# Altium schematic symbol library Archim_0.4.SCHLIB: 90 symbols
Pins are listed as number, name and electrical type; pins without a type are passive.

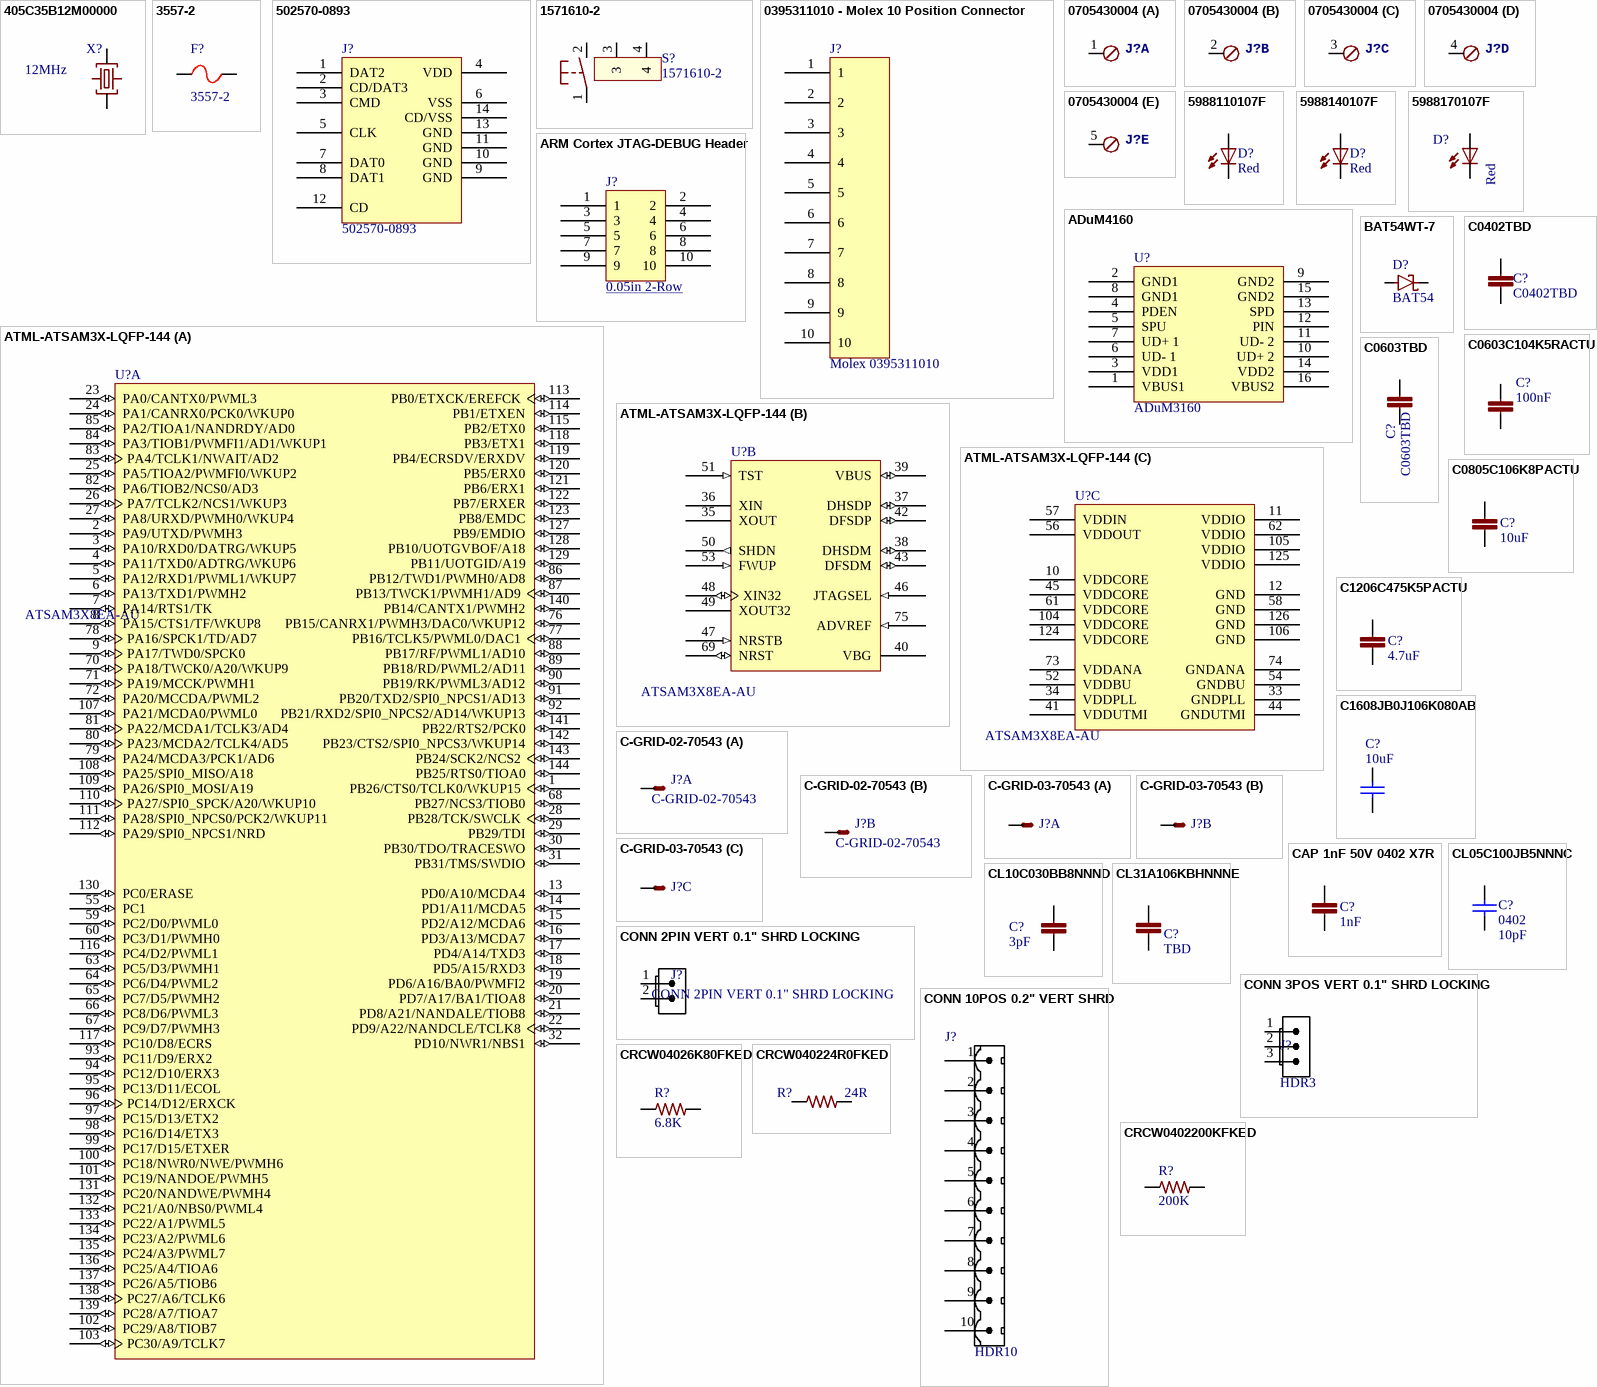
[diagram p0: symbols 405C35B12M00000 to CRCW0402200KFKED]

## 405C35B12M00000
designator X?, comment 12MHz
Crystal 12MHz ±30ppm (Tol) ±50ppm (Stability) 13pF FUND 50Ohm; MANUFACTURER: CTS; MANUFACTURER #: 405C35B12M00000; PART: 12MHz XTAL; PART DESCRIPTION: 12MHz ±30ppm Crystal 13pF 60 Ohm -20°C ~ 70°C Surface Mount 4-SMD, No Lead (DFN, LCC); TOLERANCE: +/- 30ppm; EE_SPEC: -NA-; DISTRIBUTOR #: CTX639TR-ND; DISTRIBUTOR: Digikey; VALUE: 12MHz
footprint CRYS320500
pins: 1 C1, 2 GND, 3 C2, 4 GND

## 3557-2
designator F?
FUSE PTH ATO; MANUFACTURER: Keystone; PART: Fuse Holder; PART DESCRIPTION: Fuse Block 30A 500V 1 Circuit Blade PCB; TOLERANCE: -NA-; VALUE: -NA-; EE_SPEC: 500V; MANUFACTURER #: 3557-2; DISTRIBUTOR #: 36-3557-2-ND; DISTRIBUTOR: Digikey
footprint 3557
pins: 1, 2

## 502570-0893
designator J?
microSD 502570-0893 Molex Part; MANUFACTURER #: 5025700893; PART: CONN Micro SD; PART DESCRIPTION: 10 (8 + 2) Position Card Connector Secure Digital - microSD™ Surface Mount, Right Angle Gold; TOLERANCE: -NA-; VALUE: SD Conn; MANUFACTURER: Molex; DISTRIBUTOR #: WM19093TR-ND; DISTRIBUTOR: Digikey; EE_SPEC: -NA-
footprint 502570-0893 - Molex SD (Molex SD Card Footprint 502570-0893)
pins: 1 DAT2, 2 CD/DAT3, 3 CMD, 4 VDD, 5 CLK, 6 VSS, 7 DAT0, 8 DAT1, 9 GND, 10 GND, 11 GND, 12 CD, 13 GND, 14 CD/VSS (power)

## 1571610-2
designator S?
SWTCH Momentary Washable; MANUFACTURER: TE; PART: Tactile Pushbutton; PART DESCRIPTION: Tactile Switches R/A SEALED TACT SWITCH; TOLERANCE: -NA-; VALUE: -NA-; EE_SPEC: 24V; MANUFACTURER #: 1571610-2; DISTRIBUTOR #: 506-1571610-2; DISTRIBUTOR: Mouser
footprint B3F-31XX
pins: 1 P, 2 S, 3 (power), 4 (power)

## 0395311010 - Molex 10 Position Connector
designator J?, comment Molex 0395311010
MSBTV10 10 port connector same as RAMBo; PART: CONN TERM BLOCK HDR 10POS VERT 5.08MM; PART DESCRIPTION: 10 Position Terminal Block Header, Male Pins, Shrouded (4 Side) 0.200" (5.08mm) Vertical Through Hole; TOLERANCE: -NA-; VALUE: HDR10; MANUFACTURER #: 0395311010; MANUFACTURER: Molex; DISTRIBUTOR #: WM7843-ND; DISTRIBUTOR: Digikey; EE_SPEC: -NA-
footprint MSTBV10
pins: 1, 2, 3, 4, 5, 6, 7, 8, 9, 10

## 0705430004
designator J?  (value not drawn)
5pos Latching 2.54mm; MANUFACTURER: Molex; PART: 5 Pin Conn; PART DESCRIPTION: 5 Positions Header, Shrouded Connector 0.100" (2.54mm) Through Hole Gold; TOLERANCE: -NA-; VALUE: HDR5; MANUFACTURER #: 0705430004; DISTRIBUTOR #: WM4803-ND; DISTRIBUTOR: Digikey; EE_SPEC: -NA-
footprint 5POL254
part A pins: 1
part B pins: 2 1
part C pins: 3 1
part D pins: 4 1
part E pins: 5 1

## 5988110107F
designator D?, comment Red
LED 0805 Red; MANUFACTURER: Dialight; MANUFACTURER #: 5988110107F; PART: LED Red 0805; PART DESCRIPTION: Red 635nm LED Indication - Discrete 2.2V 0805 (2012 Metric); TOLERANCE: -NA-; EE_SPEC: Vf=2.2V; VALUE: Red; DISTRIBUTOR #: 350-2038-2-ND; DISTRIBUTOR: Digikey
footprint LED2012120
pins: A, C

## 5988140107F
designator D?, comment Red
LED 0805 Yellow; MANUFACTURER: Dialight; MANUFACTURER #: 5988110107F; PART: LED Red 0805; PART DESCRIPTION: Red 635nm LED Indication - Discrete 2.2V 0805 (2012 Metric); TOLERANCE: -NA-; EE_SPEC: Vf=2.2V; VALUE: Red; DISTRIBUTOR #: 350-2038-2-ND; DISTRIBUTOR: Digikey
footprint LED2012120
pins: A, C

## 5988170107F
designator D?, comment Red
LED 0805 Green; MANUFACTURER: Dialight; MANUFACTURER #: 5988110107F; PART: LED Red 0805; PART DESCRIPTION: Red 635nm LED Indication - Discrete 2.2V 0805 (2012 Metric); TOLERANCE: -NA-; EE_SPEC: Vf=2.2V; VALUE: Red; DISTRIBUTOR #: 350-2038-2-ND; DISTRIBUTOR: Digikey
footprint LED2012120
pins: A, C

## ADuM4160
designator U?, comment ADuM3160
USB Opto Isolator; MANUFACTURER #: ADUM3160BRWZ-RL; MANUFACTURER: Analog Devices; PART: IC DGTL ISO 2.5KV 2CH USB 16SOIC; PART DESCRIPTION: USB Digital Isolator 2500Vrms 2 Channel 12Mbps 25kV/µs CMTI 16-SOIC (0.295", 7.50mm Width); TOLERANCE: -NA-; VALUE: USB ISO; EE_SPEC: 2500V ISO; DISTRIBUTOR #: ADUM3160BRWZ-RLTR-ND; DISTRIBUTOR: Digikey
footprint ADuM4160 (SOIC, 16-Leads, Body 10.30x7.50mm, Pitch 1.27mm, IPC Medium Density)
pins: 1 VBUS1, 2 GND1, 3 VDD1, 4 PDEN, 5 SPU, 6 UD- 1, 7 UD+ 1, 8 GND1, 9 GND2, 10 UD+ 2, 11 UD- 2, 12 PIN, 13 SPD, 14 VDD2, 15 GND2, 16 VBUS2

## ARM Cortex JTAG-DEBUG Header
designator J?, comment 0.05in 2-Row
20021121-00010C4LF; MANUFACTURER: Amphenol FCI; PART: 10 Pin Conn 2Row SMT; PART DESCRIPTION: 10 Positions Header, Unshrouded Connector 0.050" (1.27mm) Surface Mount Gold; TOLERANCE: -NA-; VALUE: HDR10; MANUFACTURER #: 20021121-00010C4LF; DISTRIBUTOR #: 609-3695-2-ND; DISTRIBUTOR: Digikey; EE_SPEC: -NA-
footprint FTSH-105-XX-X-DV (1.27mm pitch, 10 pin, terminal strip; vertical, SMT)
pins: 1, 2, 3, 4, 5, 6, 7, 8, 9, 10

## ATML-ATSAM3X-LQFP-144
designator U?, comment ATSAM3X8EA-AU
Atmel; PART: IC MCU 32BIT 512KB FLASH 144LQFP; PART DESCRIPTION: ARM® Cortex®-M3 SAM3X Microcontroller IC 32-Bit 84MHz 512KB (512K x 8) FLASH 144-LQFP (20x20); TOLERANCE: -NA-; VALUE: -NA-; EE_SPEC: 3.3V; MANUFACTURER #: ATSAM3X8EA-AU; MANUFACTURER: Atmel; DISTRIBUTOR #: ATSAM3X8EA-AU-ND; DISTRIBUTOR: Digikey
footprint LQFP144_N (Thin QFP, 144-Leads, Body 20x20mm, Pitch 0.5mm, IPC Medium Density)
part A pins: 1 PB26/CTS0/TCLK0/WKUP15 (io), 2 PA9/UTXD/PWMH3 (io), 3 PA10/RXD0/DATRG/WKUP5 (io), 4 PA11/TXD0/ADTRG/WKUP6 (io), 5 PA12/RXD1/PWML1/WKUP7 (io), 6 PA13/TXD1/PWMH2 (io), 7 PA14/RTS1/TK (io), 8 PA15/CTS1/TF/WKUP8 (io), 9 PA17/TWD0/SPCK0 (io), 13 PD0/A10/MCDA4 (io), 14 PD1/A11/MCDA5 (io), 15 PD2/A12/MCDA6 (io), 16 PD3/A13/MCDA7 (io), 17 PD4/A14/TXD3 (io), 18 PD5/A15/RXD3 (io), 19 PD6/A16/BA0/PWMFI2 (io), 20 PD7/A17/BA1/TIOA8 (io), 21 PD8/A21/NANDALE/TIOB8 (io), 22 PD9/A22/NANDCLE/TCLK8 (io), 23 PA0/CANTX0/PWML3 (io), 24 PA1/CANRX0/PCK0/WKUP0 (io), 25 PA5/TIOA2/PWMFI0/WKUP2 (io), 26 PA7/TCLK2/NCS1/WKUP3 (io), 27 PA8/URXD/PWMH0/WKUP4 (io), 28 PB28/TCK/SWCLK (io), 29 PB29/TDI (io), 30 PB30/TDO/TRACESWO (io), 31 PB31/TMS/SWDIO (io), 32 PD10/NWR1/NBS1 (io), 55 PC1 (io), 59 PC2/D0/PWML0 (io), 60 PC3/D1/PWMH0 (io), 63 PC5/D3/PWMH1 (io), 64 PC6/D4/PWML2 (io), 65 PC7/D5/PWMH2 (io), 66 PC8/D6/PWML3 (io), 67 PC9/D7/PWMH3 (io), 68 PB27/NCS3/TIOB0 (io), 70 PA18/TWCK0/A20/WKUP9 (io), 71 PA19/MCCK/PWMH1 (io), 72 PA20/MCCDA/PWML2 (io), 76 PB15/CANRX1/PWMH3/DAC0/WKUP12 (io), 77 PB16/TCLK5/PWML0/DAC1 (io), 78 PA16/SPCK1/TD/AD7 (io), 79 PA24/MCDA3/PCK1/AD6 (io), 80 PA23/MCDA2/TCLK4/AD5 (io), 81 PA22/MCDA1/TCLK3/AD4 (io), 82 PA6/TIOB2/NCS0/AD3 (io), 83 PA4/TCLK1/NWAIT/AD2 (io), 84 PA3/TIOB1/PWMFI1/AD1/WKUP1 (io), 85 PA2/TIOA1/NANDRDY/AD0 (io), 86 PB12/TWD1/PWMH0/AD8 (io), 87 PB13/TWCK1/PWMH1/AD9 (io), 88 PB17/RF/PWML1/AD10 (io), 89 PB18/RD/PWML2/AD11 (io), 90 PB19/RK/PWML3/AD12 (io), 91 PB20/TXD2/SPI0_NPCS1/AD13 (io), 92 PB21/RXD2/SPI0_NPCS2/AD14/WKUP13 (io), 93 PC11/D9/ERX2 (io), 94 PC12/D10/ERX3 (io), 95 PC13/D11/ECOL (io), 96 PC14/D12/ERXCK (io), 97 PC15/D13/ETX2 (io), 98 PC16/D14/ETX3 (io), 99 PC17/D15/ETXER (io), 100 PC18/NWR0/NWE/PWMH6 (io), 101 PC19/NANDOE/PWMH5 (io), 102 PC29/A8/TIOB7 (io), 103 PC30/A9/TCLK7 (io), 107 PA21/MCDA0/PWML0 (io), 108 PA25/SPI0_MISO/A18 (io), 109 PA26/SPI0_MOSI/A19 (io), 110 PA27/SPI0_SPCK/A20/WKUP10 (io), 111 PA28/SPI0_NPCS0/PCK2/WKUP11 (io), 112 PA29/SPI0_NPCS1/NRD (io), 113 PB0/ETXCK/EREFCK (io), 114 PB1/ETXEN (io), 115 PB2/ETX0 (io), 116 PC4/D2/PWML1 (io), 117 PC10/D8/ECRS (io), 118 PB3/ETX1 (io), 119 PB4/ECRSDV/ERXDV (io), 120 PB5/ERX0 (io), 121 PB6/ERX1 (io), 122 PB7/ERXER (io), 123 PB8/EMDC (io), 127 PB9/EMDIO (io), 128 PB10/UOTGVBOF/A18 (io), 129 PB11/UOTGID/A19 (io), 130 PC0/ERASE (io), 131 PC20/NANDWE/PWMH4 (io), 132 PC21/A0/NBS0/PWML4 (io), 133 PC22/A1/PWML5 (io), 134 PC23/A2/PWML6 (io), 135 PC24/A3/PWML7 (io), 136 PC25/A4/TIOA6 (io), 137 PC26/A5/TIOB6 (io), 138 PC27/A6/TCLK6 (io), 139 PC28/A7/TIOA7 (io), 140 PB14/CANTX1/PWMH2 (io), 141 PB22/RTS2/PCK0 (io), 142 PB23/CTS2/SPI0_NPCS3/WKUP14 (io), 143 PB24/SCK2/NCS2 (io), 144 PB25/RTS0/TIOA0 (io)
part B pins: 35 XOUT "Main Oscillator Output", 36 XIN "Main Oscillator Input", 37 DHSDP (io) "USB High Speed Data +", 38 DHSDM (io) "USB High Speed Data -", 39 VBUS (io) "USB Bus Power Measurement Mini Host/Device", 40 VBG "Bias Voltage Reference", 42 DFSDP (io) "USB Full Speed Data +", 43 DFSDM (io) "USB Full Speed Data -", 46 JTAGSEL (in) "JTAG Selection", 47 NRSTB (in) "Asynchronous Microcontroller Reset", 48 XIN32 (io) "Slow Clock Oscillator Input", 49 XOUT32 "Slow Clock Oscillator Output", 50 SHDN (out) "Shut-Down Control", 51 TST (in) "Test Mode Select", 53 FWUP (in) "Force Wake-up Input", 69 NRST (io) "Microcontroller Reset", 75 ADVREF (in) "ADC and DAC Reference"
part C pins: 10 VDDCORE (power) "Core Chip Power Supply", 11 VDDIO (power) "Peripherals I/O Lines Power Supply", 12 GND (power) "Ground", 33 GNDPLL (power) "PLL A, UPLL and Oscillator Ground", 34 VDDPLL (power) "PLL A, UPLL and Oscillator Power Supply", 41 VDDUTMI (power) "USB UTMI+ Interface Power Supply", 44 GNDUTMI (power) "USB UTMI+ Interface Ground", 45 VDDCORE (power) "Core Chip Power Supply", 52 VDDBU (power) "Backup I/O Lines Power Supply", 54 GNDBU (power) "Backup Ground", 56 VDDOUT (power) "Voltage Regulator Output", 57 VDDIN (power) "Voltage Regulator, ADC and DAC Power", 58 GND (power) "Ground", 61 VDDCORE (power) "Core Chip Power Supply", 62 VDDIO (power) "Peripherals I/O Lines Power Supply", 73 VDDANA (power) "ADC and DAC Analog Power Supply", 74 GNDANA (power) "ADC and DAC Analog Ground", 104 VDDCORE (power) "Core Chip Power Supply", 105 VDDIO (power) "Peripherals I/O Lines Power Supply", 106 GND (power) "Ground", 124 VDDCORE (power) "Core Chip Power Supply", 125 VDDIO (power) "Peripherals I/O Lines Power Supply", 126 GND (power) "Ground"

## BAT54WT-7
designator D?, comment BAT54
Diode Schottky 30V 100mA Surface Mount SOD-523; MANUFACTURER: Diodes Incorporated; MANUFACTURER #: BAT54WT-7; PART: Schottky Diode; TOLERANCE: -NA-; VALUE: BAT54; DISTRIBUTOR #: BAT54WT-7DI-ND; DISTRIBUTOR: Digikey; PART DESCRIPTION: Diode Schottky 30V 100mA Surface Mount SOD-523; EE_SPEC: 30V 100mA
footprint SOD523_
pins: A, K

## C0402TBD
designator C?
Capacitor Non Polarized; MANUFACTURER #: DNI-C0402TBD; VALUE: C0402TBD; DNI: DNI
footprint C0402
signal-integrity model Model Name (Model Description)
simulation model Model Name (Model Description)
pins: 1, 2

## C0603C104K5RACTU
designator C?, comment 100nF
CAP CER 0603 100nF 50V 10% X7R; MANUFACTURER: Kemet; MANUFACTURER #: C0603C104K5RACTU; PART: 100nF 50V X7R 0603; PART DESCRIPTION: 0.10µF ±10% 50V Ceramic Capacitor X7R 0603 (1608 Metric); VALUE: 100nF; DISTRIBUTOR #: 399-5089-2-ND; DISTRIBUTOR: Digikey; TOLERANCE: 10%; EE_SPEC: 50V
footprint C0603
signal-integrity model Model Name (Model Description)
simulation model Model Name (Model Description)
pins: 1, 2

## C0603TBD
designator C?
Capacitor Non Polarized; MANUFACTURER #: DNI-C0603TBD; VALUE: C0603TBD; DNI: DNI
footprint C0603
signal-integrity model Model Name (Model Description)
simulation model Model Name (Model Description)
pins: 1, 2

## C0805C106K8PACTU
designator C?, comment 10uF
CAP CER 0805 10uF 10V 10% X5R; MANUFACTURER: Kemet; MANUFACTURER #: C0805C106K8PACTU; PART: 10uF 10V X5R 0805; PART DESCRIPTION: 10µF ±10% 10V Ceramic Capacitor X5R 0805 (2012 Metric); VALUE: 10uF; DISTRIBUTOR #: 399-4925-2-ND; DISTRIBUTOR: Digikey; TOLERANCE: 10%; EE_SPEC: 10V
footprint C0805
signal-integrity model Model Name (Model Description)
simulation model Model Name (Model Description)
pins: 1, 2

## C1206C475K5PACTU
designator C?, comment 4.7uF
CAP CER 1206 4.7uF 50V 10% X5R; MANUFACTURER: Kemet; MANUFACTURER #: C1206C475K5PACTU; PART: 4.7uF 50V X5R 1206; PART DESCRIPTION: 4.7µF ±10% 50V Ceramic Capacitor X5R 1206 (3216 Metric); VALUE: 4.7uF; DISTRIBUTOR #: 399-5507-2-ND; DISTRIBUTOR: Digikey; TOLERANCE: 10%; EE_SPEC: 50V
signal-integrity model Model Name (Model Description)
simulation model Model Name (Model Description)
footprint C1206
pins: 1, 2

## C1608JB0J106K080AB
designator C?, comment value 10uF  (hidden comment: 0603)
CAP CER 10UF 6.3V 10% JB 0603; MANUFACTURER #: C1608JB0J106K080AB; MANUFACTURER: TDK; PART: 10µF ±10% 6.3V Ceramic Capacitor JB 0603 (1608 Metric); EE_SPEC: 6.3VDC; PART DESCRIPTION: CAP CER 10UF 6.3V 10% JB 0603; TOLERANCE: 10%; DISTRIBUTOR #: 445-11185-1-ND; DISTRIBUTOR: Digikey
simulation model CAP (Semiconductor Capacitor)
signal-integrity model Cap Semi
footprint C0603
pins: 1, 2

## C-GRID-02-70543
designator J?
Connector 2pos; MANUFACTURER: Molex; MANUFACTURER #: 0705430001; PART: 10 Pin Conn; PART DESCRIPTION: 2 Positions Header, Shrouded Connector 0.100" (2.54mm) Through Hole Gold; TOLERANCE: -NA-; VALUE: HDR2; DISTRIBUTOR #: WM4800-ND; DISTRIBUTOR: Digikey; EE_SPEC: -NA-
footprint 70543-02
part A pins: 1 S
part B pins: 2 S

## C-GRID-03-70543
designator J?, comment Molex 70543-03  (value not drawn)
Connector 2pos 2.54mm locking; MANUFACTURER #: 0705430002; PART: 3 Pin Conn VERT; PART DESCRIPTION: 3 Positions Header, Shrouded Connector 0.100" (2.54mm) Through Hole Gold; TOLERANCE: -NA-; VALUE: HDR3; MANUFACTURER: Molex; DISTRIBUTOR #: WM4801-ND; DISTRIBUTOR: Digikey; EE_SPEC: -NA-
footprint 70543-03
part A pins: 1 S
part B pins: 2 S
part C pins: 3 S

## CAP 1nF 50V 0402 X7R
designator C?, comment 1nF
1000pF 50V Ceramic Capacitor X7R 0402 (1005 Metric) 0.039" L x 0.020" W (1.00mm x 0.50mm); MANUFACTURER: Murata; MANUFACTURER #: GRM155R71H102KA01D; PART: 1nF 50V X7R 0402; PART DESCRIPTION: 1000pF ±10% 50V Ceramic Capacitor X7R 0402 (1005 Metric); TOLERANCE: 10%; VALUE: 1nF; DISTRIBUTOR #: 490-1303-2-ND; DISTRIBUTOR: Digikey; EE_SPEC: 50V
footprint C0402
pins: 1, 2

## CL05C100JB5NNNC
designator C?, comment 0402  value 10pF
CAP CER 10PF 50V 5% NP0 0402; PART DESCRIPTION: 10pF ±5% 50V Ceramic Capacitor C0G, NP0 0402 (1005 Metric); MANUFACTURER #: CL05C100JB5NNNC; MANUFACTURER: Samsung; PART: 10pF 50V NP0 0402; TOLERANCE: 5%; EE_SPEC: 50V; DISTRIBUTOR #: 1276-1139-2-ND; DISTRIBUTOR: Digikey
simulation model CAP (Semiconductor Capacitor)
signal-integrity model Cap Semi
footprint C0402
pins: 1, 2

## CL10C030BB8NNND
designator C?, comment 3pF
CAP CER 3PF 50V NP0 0603; MANUFACTURER: Samsung; MANUFACTURER #: CL10C030BB8NNND; PART DESCRIPTION: 3pF ±0.1pF 50V Ceramic Capacitor C0G, NP0 0603 (1608 Metric); TOLERANCE: +/- 0.1pF; VALUE: 3pF; DISTRIBUTOR #: CL10C030BB8NNND-ND; DISTRIBUTOR: Digikey; PART: 3pF 50V NP0 0603; EE_SPEC: 50V
footprint C0603
signal-integrity model Model Name (Model Description)
simulation model Model Name (Model Description)
pins: 1, 2

## CL31A106KBHNNNE
designator C?, comment TBD
CAP CER 10UF 50V 10% X5R 1206; MANUFACTURER: Samsung; MANUFACTURER #: CL31A106KBHNNNE; PART: 10uF 50V X5R 1206; PART DESCRIPTION: 10µF ±10% 50V Ceramic Capacitor X5R 1206 (3216 Metric); VALUE: TBD; DISTRIBUTOR #: 1276-2876-2-ND; DISTRIBUTOR: Digikey; TOLERANCE: 10%; EE_SPEC: 50V; DNI: DNI
signal-integrity model Model Name (Model Description)
simulation model Model Name (Model Description)
footprint C1206
pins: 1, 2

## CONN 2PIN VERT 0.1" SHRD LOCKING
designator J?
Connector 2pos; MANUFACTURER: Molex; MANUFACTURER #: 0705430001; PART: 10 Pin Conn; PART DESCRIPTION: 2 Positions Header, Shrouded Connector 0.100" (2.54mm) Through Hole Gold; TOLERANCE: -NA-; VALUE: HDR2; DISTRIBUTOR #: WM4800-ND; DISTRIBUTOR: Digikey; EE_SPEC: -NA-
footprint 70543-02
pins: 1 S, 2 S

## CONN 3POS VERT 0.1" SHRD LOCKING
designator J?, comment value HDR3  (hidden comment: Molex 70543-03)
3 Positions Header, Shrouded Connector 0.100" (2.54mm) Through Hole Gold; MANUFACTURER #: 0705430002; PART: 3 Pin Conn VERT; TOLERANCE: -NA-; MANUFACTURER: Molex; DISTRIBUTOR #: WM4801-ND; DISTRIBUTOR: Digikey; PART DESCRIPTION: 3 Positions Header, Shrouded Connector 0.100" (2.54mm) Through Hole Gold; EE_SPEC: -NA-
footprint 70543-03
pins: 1 S, 2 S, 3 S

## CONN 10POS 0.2" VERT SHRD
designator J?, comment value HDR10  (hidden comment: Molex 0395311010)
MSBTV10 10 port connector same as RAMBo; PART: CONN TERM BLOCK HDR 10POS VERT 5.08MM; PART DESCRIPTION: 10 Position Terminal Block Header, Male Pins, Shrouded (4 Side) 0.200" (5.08mm) Vertical Through Hole; TOLERANCE: -NA-; MANUFACTURER #: 0395311010; MANUFACTURER: Molex; DISTRIBUTOR #: WM7843-ND; DISTRIBUTOR: Digikey; EE_SPEC: -NA-
footprint MSTBV10
pins: 1, 2, 3, 4, 5, 6, 7, 8, 9, 10

## CRCW04026K80FKED
designator R?, comment 6.8K
RES SMD 6.8K OHM 1% 1/16W 0402; MANUFACTURER: Vishay Dale; MANUFACTURER #: CRCW04026K80FKED; PART: 6.8k 1% 0402; PART DESCRIPTION: 6.8k Ohm ±1% 0.063W, 1/16W Chip Resistor 0402 (1005 Metric) Automotive AEC-Q200 Thick Film; VALUE: 6.8K; DISTRIBUTOR #: 541-6.80KLTR-ND; DISTRIBUTOR: Digikey; TOLERANCE: 1%; EE_SPEC: 1/16W
footprint R0402
signal-integrity model Model Name (Model Description)
simulation model Model Name (Model Description)
pins: 1, 2

## CRCW040224R0FKED
designator R?, comment 24R
Res Thick Film 0402 24 Ohm 1% 0.063W; MANUFACTURER: Yageo; MANUFACTURER #: RC0402FR-0724RL; PART: 24R 1% 0402; PART DESCRIPTION: 24 Ohm ±1% 0.063W, 1/16W Chip Resistor 0402 (1005 Metric) Moisture Resistant Thick Film; EE_SPEC: 1/16W; VALUE: 24R; DISTRIBUTOR #: YAG3073TR-ND; DISTRIBUTOR: Digikey; TOLERANCE: 1%
footprint R0402
signal-integrity model Model Name (Model Description)
simulation model Model Name (Model Description)
pins: 1, 2

## CRCW0402200KFKED
designator R?, comment 200K
RES 0402 200k 63mW 1%; MANUFACTURER: Vishay Dale; MANUFACTURER #: CRCW0402200KFKED; PART: 200k 1% 0402; PART DESCRIPTION: 200k Ohm ±1% 0.063W, 1/16W Chip Resistor 0402 (1005 Metric) Automotive AEC-Q200 Thick Film; EE_SPEC: 1/16W; VALUE: 200K; DISTRIBUTOR #: 541-200KLTR-ND; DISTRIBUTOR: Digikey; TOLERANCE: 1%
footprint R0402
signal-integrity model Model Name (Model Description)
simulation model Model Name (Model Description)
pins: 1, 2

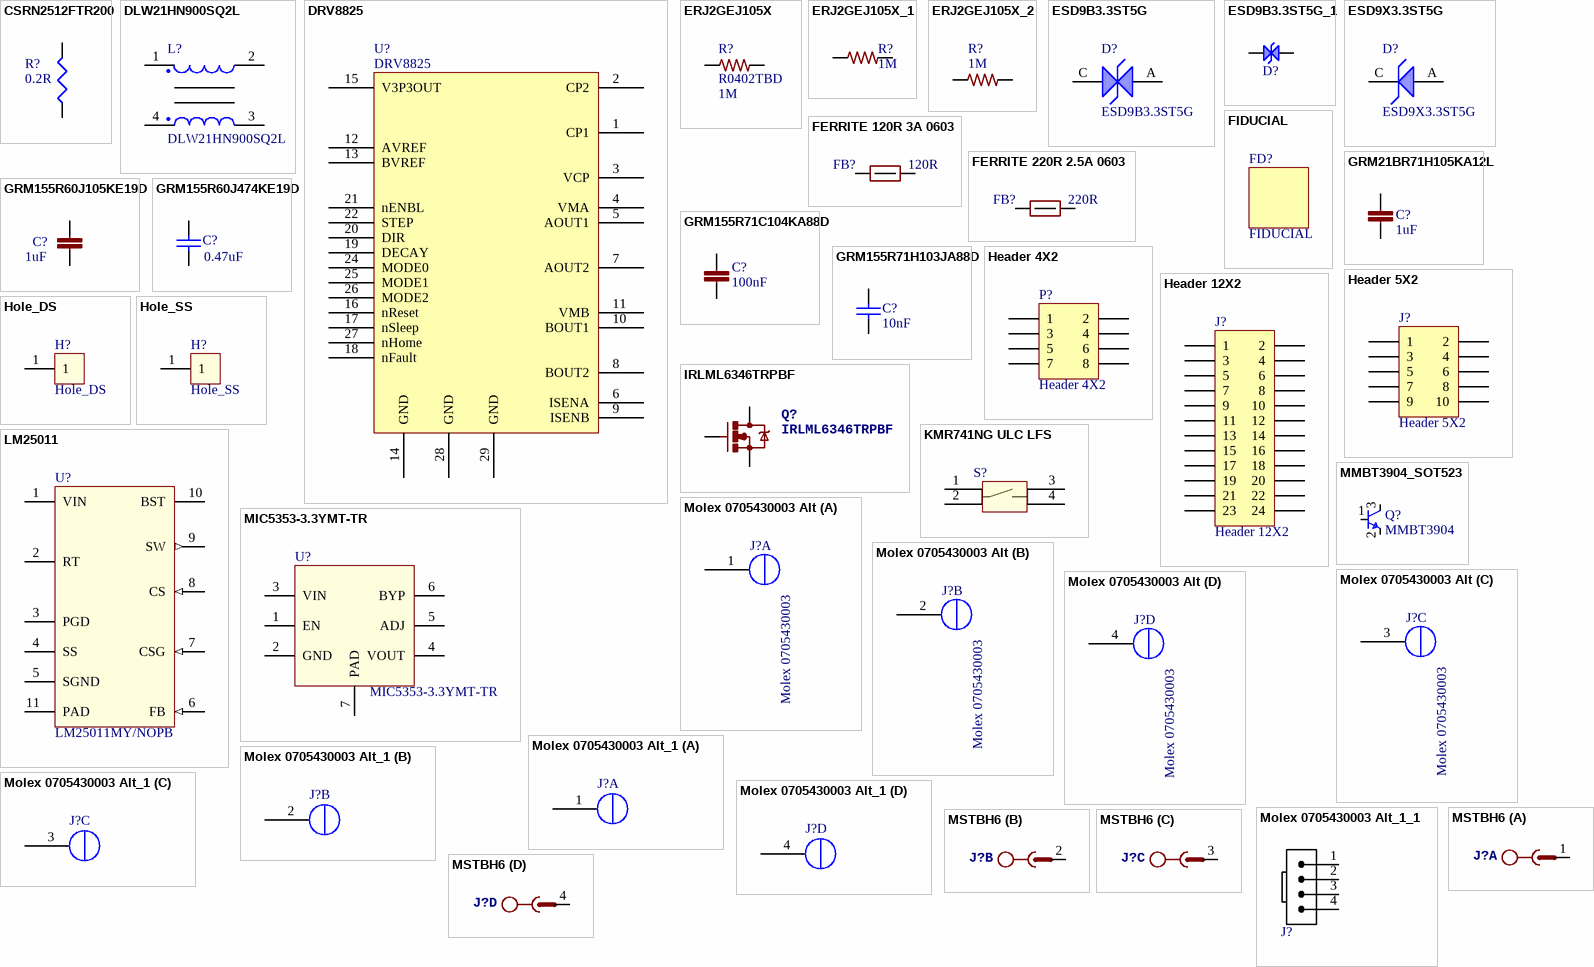
[diagram p1: symbols CSRN2512FTR200 to MSTBH6]

## CSRN2512FTR200
designator R?, comment value 0.2R  (hidden comment: 2512)
RES SMD 0.2 OHM 1% 2W 2512; MANUFACTURER #: CSRN2512FKR200; MANUFACTURER: Stackpole ELectronics Inc; PART: 0.2R 1% 2512; PART DESCRIPTION: 0.2 Ohm ±1% 2W Chip Resistor 2512 (6432 Metric) Current Sense Thick Film; DISTRIBUTOR #: CSRN2512FKR200TR-ND; DISTRIBUTOR: Digikey; TOLERANCE: 1%; EE_SPEC: 2W
simulation model RESISTOR (Resistor)
signal-integrity model Res
footprint 2512R-0.55 (2512 Resistor 6.35mm x 3.2mm x 0.55mm)
pins: 1, 2

## DLW21HN900SQ2L
designator L?
Common Mode Chokes Dual 90Ohm 100MHz 330mA 350mOhm DCR SMD; MANUFACTURER: Murata; PART: Choke Common-Mode 2LN 90 OHM SMD; PART DESCRIPTION: 2 Line Common Mode Choke Surface Mount 90 Ohm @ 100MHz 330mA DCR 350 mOhm; TOLERANCE: -NA-; VALUE: 90R; EE_SPEC: 50V 330mA 0.33Ohm; MANUFACTURER #: DLW21HN900SQ2L; DISTRIBUTOR #: 490-1064-2-ND; DISTRIBUTOR: Digikey
footprint DLW21HN900SQ2L
pins: 1 (power), 2 (power), 3 (power), 4 (power)

## DRV8825
designator U?
DRV8825 Ti Stepper Driver; MANUFACTURER #: DRV8825PWPR; MANUFACTURER: Texas Instruments; PART DESCRIPTION: Bipolar Motor Driver Power MOSFET Step/Direction 28-HTSSOP; TOLERANCE: -NA-; EE_SPEC: 8.2-45VDC; VALUE: -NA-; DISTRIBUTOR #: 296-29503-2-ND; DISTRIBUTOR: Digikey; PART: DRV8825
footprint DRV8825PWPR (PowerPAD (HTSSOP) - PWP)
pins: 1 CP1, 2 CP2, 3 VCP, 4 VMA, 5 AOUT1, 6 ISENA, 7 AOUT2, 8 BOUT2, 9 ISENB, 10 BOUT1, 11 VMB, 12 AVREF, 13 BVREF, 14 GND, 15 V3P3OUT, 16 nReset, 17 nSleep, 18 nFault, 19 DECAY, 20 DIR, 21 nENBL, 22 STEP, 23 NC hidden, 24 MODE0, 25 MODE1, 26 MODE2, 27 nHome, 28 GND, 29 GND

## ERJ2GEJ105X
designator R?, comment R0402TBD  value 1M
RES 0402 1M 100mW 5%; MANUFACTURER: Panasonic; MANUFACTURER #: ERJ2GEJ105X; PART: 1M 5% 0402; PART DESCRIPTION: 1M Ohm ±5% 0.1W, 1/10W Chip Resistor 0402 (1005 Metric) Automotive AEC-Q200 Thick Film; EE_SPEC: 1/10W; DISTRIBUTOR #: P1.0MJTR-ND; DISTRIBUTOR: Digikey; TOLERANCE: 5%
footprint R0402TBD
signal-integrity model Model Name (Model Description)
simulation model Model Name (Model Description)
pins: 1, 2

## ERJ2GEJ105X_1
designator R?, comment 1M
RES 0402 1M 100mW 5%; MANUFACTURER: Panasonic; MANUFACTURER #: ERJ2GEJ105X; PART: 1M 5% 0402; PART DESCRIPTION: 1M Ohm ±5% 0.1W, 1/10W Chip Resistor 0402 (1005 Metric) Automotive AEC-Q200 Thick Film; EE_SPEC: 1/10W; VALUE: 1M; DISTRIBUTOR #: P1.0MJTR-ND; DISTRIBUTOR: Digikey; TOLERANCE: 5%
footprint R0402
signal-integrity model Model Name (Model Description)
simulation model Model Name (Model Description)
pins: 1, 2

## ERJ2GEJ105X_2
designator R?, comment 1M
RES 0402 1M 100mW 5%; MANUFACTURER: Panasonic; MANUFACTURER #: ERJ2GEJ105X; PART: 1M 5% 0402; PART DESCRIPTION: 1M Ohm ±5% 0.1W, 1/10W Chip Resistor 0402 (1005 Metric) Automotive AEC-Q200 Thick Film; EE_SPEC: 1/10W; VALUE: 1M; DISTRIBUTOR #: P1.0MJTR-ND; DISTRIBUTOR: Digikey; TOLERANCE: 5%
footprint R0402
signal-integrity model Model Name (Model Description)
simulation model Model Name (Model Description)
pins: 1, 2

## ESD9B3.3ST5G
designator D?
11.5 V 15 pF SMT Transient Voltage Suppressor - SOD-923; MANUFACTURER: On Semi; PART: TVS DIODE 3.3VWM SOD923; TOLERANCE: -NA-; VALUE: 3.3V; EE_SPEC: 3.3Vso 15pF; MANUFACTURER #: ESD9B3.3ST5G; DISTRIBUTOR #: ESD9B3.3ST5GOSTR-ND; DISTRIBUTOR: Digikey; PART DESCRIPTION: TVS DIODE 3.3VWM SOD923
footprint SOD923-100X40-2N (SODFL, 2-Leads, Body 0.60x1.00mm, IPC Medium Density)
pins: A (power), C (power)

## ESD9B3.3ST5G_1
designator D?, comment ESD9B3.3ST5G  (value not drawn)
11.5 V 15 pF SMT Transient Voltage Suppressor - SOD-923; MANUFACTURER: On Semi; PART: TVS DIODE 3.3VWM SOD923; TOLERANCE: -NA-; VALUE: 3.3V; EE_SPEC: 3.3Vso 15pF; MANUFACTURER #: ESD9B3.3ST5G; DISTRIBUTOR #: ESD9B3.3ST5GOSTR-ND; DISTRIBUTOR: Digikey; PART DESCRIPTION: TVS DIODE 3.3VWM SOD923
footprint SOD923-100X40-2N (SODFL, 2-Leads, Body 0.60x1.00mm, IPC Medium Density)
pins: A (power), C (power)

## ESD9X3.3ST5G
designator D?
TVS DIODE 3.3VWM 10.4VC SOD923; MANUFACTURER: On Semi; PART: TVS DIODE 3.3VWM SOD923; TOLERANCE: -NA-; VALUE: 3.3V; EE_SPEC: 3.3Vso 15pF; MANUFACTURER #: ESD9X3.3ST5G; DISTRIBUTOR #: ESD9X3.3ST5GOSCT-ND; DISTRIBUTOR: Digikey; PART DESCRIPTION: TVS DIODE 3.3VWM SOD923
footprint SOD923-100X40-2N (SODFL, 2-Leads, Body 0.60x1.00mm, IPC Medium Density)
pins: A (power), C (power)

## FERRITE 120R 3A 0603
designator FB?, comment 120R
FERRITE BEAD 120 OHM 0603 1LN; MANUFACTURER: Samsung; MANUFACTURER #: CIS10P121AC; PART: FERRITE 120R 3A 0603; MANUFACTURER2#: 490-5254-2-ND; VALUE: 120Rfb; TOLERANCE: -NA-; EE_SPEC: 3A; DISTRIBUTOR #: 1276-6351-2-ND; DISTRIBUTOR: Digikey; PART DESCRIPTION: FERRITE BEAD 120 OHM 0603 1LN
footprint FB0603 (Ferrite Bead, Samsung CIS10P High Current Series)
pins: 1, 2

## FERRITE 220R 2.5A 0603
designator FB?, comment 220R
FERRITE BEAD 220 OHM 0603 1LN; MANUFACTURER: Samsung; MANUFACTURER #: CIS10P221NC; PART: Ferrite 220R 0603; VALUE: 220Rfb; TOLERANCE: -NA-; EE_SPEC: 2.5A; DISTRIBUTOR #: 1276-6350-2-ND; DISTRIBUTOR: Digikey; PART DESCRIPTION: FERRITE BEAD 220 OHM 0603 1LN
footprint FB0603 (Ferrite Bead, Samsung CIS10P High Current Series)
pins: 1, 2

## FIDUCIAL
designator FD?  (no BOM)
MANUFACTURER #: NOTAPART-Fiducial
footprint FIDUCIAL-1X2
footprint FIDUCIAL-2x3-Panel

## GRM21BR71H105KA12L
designator C?, comment 1uF
CAP CER 0805 1uF 50V 10% X7R; MANUFACTURER: Murata; MANUFACTURER #: GRM21BR71H105KA12L; PART: 1uF 50V X7R 0805; PART DESCRIPTION: 1µF ±10% 50V Ceramic Capacitor X7R 0805 (2012 Metric); VALUE: 1uF; DISTRIBUTOR #: 490-4736-2-ND; DISTRIBUTOR: Digikey; TOLERANCE: 10%; EE_SPEC: 50V
footprint C0805
signal-integrity model Model Name (Model Description)
simulation model Model Name (Model Description)
pins: 1, 2

## GRM155R60J105KE19D
designator C?, comment 1uF
CAP CER 0402 1uF 6.3V 10% X5R; MANUFACTURER: Murata; MANUFACTURER #: GRM155R60J105KE19D; PART: 1uF 6.3V X5R 0402; PART DESCRIPTION: 1µF ±10% 6.3V Ceramic Capacitor X5R 0402 (1005 Metric); VALUE: 1uF; DISTRIBUTOR #: 490-1320-2-ND; DISTRIBUTOR: Digikey; TOLERANCE: 10%; EE_SPEC: 6.3V
footprint C0402
signal-integrity model Model Name (Model Description)
simulation model Model Name (Model Description)
pins: 1, 2

## GRM155R60J474KE19D
designator C?, comment value 0.47uF  (hidden comment: 0402)
0.47uF 6.3v C0402 - GRM155R60J474KE19D; PART DESCRIPTION: 0.47µF ±10% 6.3V Ceramic Capacitor X5R 0402 (1005 Metric); MANUFACTURER: Murata; PART: 0.47uF 6.3V X5R 0402; TOLERANCE: 10%; EE_SPEC: 6.3V; MANUFACTURER #: GRM155R60J474KE19D; DISTRIBUTOR #: 490-3266-2-ND; DISTRIBUTOR: Digikey
simulation model CAP (Semiconductor Capacitor)
signal-integrity model Cap Semi
footprint C0402
pins: 1, 2

## GRM155R71C104KA88D
designator C?, comment 100nF
CAP CER 0402 100nF 16V 10% X7R; MANUFACTURER: Murata; MANUFACTURER #: GRM155R71C104KA88D; PART: 0.1uF 16V X7R 0402; PART DESCRIPTION: 0.10µF ±10% 16V Ceramic Capacitor X7R 0402 (1005 Metric); VALUE: 100nF; DISTRIBUTOR #: 490-3261-2-ND; DISTRIBUTOR: Digikey; TOLERANCE: 10%; EE_SPEC: 16V
footprint C0402
signal-integrity model Model Name (Model Description)
simulation model Model Name (Model Description)
pins: 1, 2

## GRM155R71H103JA88D
designator C?, comment 10nF
CAP CER 10nF 50V X7R 0402; PART DESCRIPTION: 10000pF ±5% 50V Ceramic Capacitor X7R 0402 (1005 Metric); MANUFACTURER #: GRM155R71H103JA88D; MANUFACTURER: Murata; TOLERANCE: 5%; EE_SPEC: 50V; VALUE: 10nF; DISTRIBUTOR #: 490-7763-1-ND; DISTRIBUTOR: Digikey; PART: 10nF 50V X7R 0402
simulation model CAP (Semiconductor Capacitor)
signal-integrity model Cap Semi
footprint C0402
pins: 1, 2

## Header 4X2
designator P?
Header, 4-Pin, Dual row; MANUFACTURER #: 2213S-08G; MANUFACTURER: Multicomp; PART: CONN 8Pin 2Row 0.1"; PART DESCRIPTION: Board-To-Board Connector, 2.54 mm, 8 Contacts, Header, 2213S Series, Through Hole, 2 Rows; TOLERANCE: -NA-; VALUE: HDR8; DISTRIBUTOR #: 08N6790; DISTRIBUTOR: Future; EE_SPEC: -NA-
footprint HDR2X4 (Connector; Header; 4x2 Position)
signal-integrity model Connector
pins: 1, 2, 3, 4, 5, 6, 7, 8

## Header 5X2
designator J?
Header, 5-Pin, Dual row; MANUFACTURER #: 2213S-10G; MANUFACTURER: Multicomp; PART: CONN 10Pin 2Row 0.1"; PART DESCRIPTION: Board-To-Board Connector, 2.54 mm, 10 Contacts, Header, 2213S Series, Through Hole, 2 Rows; TOLERANCE: -NA-; VALUE: HDR10; DISTRIBUTOR #: 08N6791; DISTRIBUTOR: Future; EE_SPEC: -NA-
footprint HDR2X5 (Connector; Header; 5x2 Position)
signal-integrity model Connector
pins: 1, 2, 3, 4, 5, 6, 7, 8, 9, 10

## Header 12X2
designator J?
Header, 12-Pin, Dual row; MANUFACTURER #: 2213S-24G; MANUFACTURER: Multicomp; PART: CONN 24Pin 2Row 0.1"; PART DESCRIPTION: Board-To-Board Connector, 2.54 mm, 24 Contacts, Header, 2213S Series, Through Hole, 2 Rows; TOLERANCE: -NA-; VALUE: HDR24; DISTRIBUTOR #: 08N6796; DISTRIBUTOR: Future; EE_SPEC: -NA-
footprint HDR2X12 (Connector; Header; 12x2 Position)
signal-integrity model Connector
pins: 1, 2, 3, 4, 5, 6, 7, 8, 9, 10, 11, 12, 13, 14, 15, 16, 17, 18, 19, 20, 21, 22, 23, 24

## Hole_DS
designator H?  (no BOM)
MANUFACTURER #: NOTAPART-Hole
footprint Wave_hole_3x7-doubleSided
pins: 1 (power)

## Hole_SS
designator H?  (no BOM)
MANUFACTURER #: NOTAPART-Hole
footprint Wave_hole_3x7-singleSided
pins: 1 (power)

## IRLML6346TRPBF
designator Q?
Mosfet N-Channel 30V 3.4A 63mOhm; MANUFACTURER: Infineon; PART: MOSFET N-Chan 30V 3.4A; PART DESCRIPTION: N-Channel 30V 3.4A (Ta) 1.3W (Ta) Surface Mount Micro3™/SOT-23; TOLERANCE: -NA-; VALUE: N-FET; MANUFACTURER #: IRLML6346TRPBF; DISTRIBUTOR #: IRLML6346TRPBFTR-ND; DISTRIBUTOR: Digikey; EE_SPEC: 30V 3.4A 63mOhm
footprint SOT23-3
pins: 1 G, 2 S, 3 D

## KMR741NG ULC LFS
designator S?  (value not drawn)
SWITCH TACTILE SPST-NO 0.05A 12V; MANUFACTURER: C&K; PART: Tactile Pushbutton SMT; PART DESCRIPTION: Tactile Switch SPST-NO Top Actuated Surface Mount; TOLERANCE: -NA-; VALUE: -NA-; EE_SPEC: 32V 50mA; MANUFACTURER #: KMR741NG ULC LFS; DISTRIBUTOR #: CKN10688TR-ND; DISTRIBUTOR: Digikey
footprint KMR 6 Series (Tactile Switch SPST-NO Top Actuated Surface Mount)
pins: 1 (power), 2 (power), 3 (power), 4 (power)

## LM25011
designator U?, comment LM25011MY/NOPB
REG BUCK; MANUFACTURER: Texas Instruments; PART: IC VREG BUCK ADJ 2A 10MSOP; PART DESCRIPTION: Buck Switching Regulator IC Positive Adjustable 2.51V 1 Output 2A 10-TFSOP, 10-MSOP (0.118", 3.00mm Width) Exposed Pad; TOLERANCE: -NA-; EE_SPEC: 2A 42Vin_max; VALUE: LM25011MY/NOPB; MANUFACTURER #: LM25011MY/NOPB; DISTRIBUTOR #: LM25011MY/NOPBTR-ND; DISTRIBUTOR: Digikey
footprint VSSOP10 (TSSOP, 10-Leads, Body 3.15x3.00mm, Pitch 0.50mm, Thermal Pad 2.05.2x1.50.2mm, IPC High Density)
pins: 1 VIN (power), 2 RT (power), 3 PGD (power), 4 SS (power), 5 SGND (power), 6 FB (in), 7 CSG (in), 8 CS (in), 9 SW (out), 10 BST (power), 11 PAD (power)

## MIC5353-3.3YMT-TR
designator U?
LDO 3.3V 500mA - low ESR Cout; MANUFACTURER: Microchip; PART: IC REG LDO 3.3V 0.5A 6TMLF; PART DESCRIPTION: Linear Voltage Regulator IC Positive Fixed 1 Output 3.3V 500mA 6-TMLF® (1.6x1.6); TOLERANCE: -NA-; VALUE: 3.3V LDO; MANUFACTURER #: MIC5353-3.3YMT-TR; DISTRIBUTOR #: 576-3680-2-ND; DISTRIBUTOR: Digikey; EE_SPEC: 500mA
footprint TDFN1616-6LD-PL-1 (1.6mmx1.6mm)
pins: 1 EN (power), 2 GND (power), 3 VIN (power), 4 VOUT (power), 5 ADJ (power), 6 BYP (power), 7 PAD (power)

## MMBT3904_SOT523
designator Q?, comment MMBT3904
TRANS NPN 60V 0.2A SOT523; MANUFACTURER #: MMBT3904T-7-F; MANUFACTURER: Diodes Incorporated; PART: TRANS NPN 40V 0.2A SOT523; PART DESCRIPTION: Bipolar (BJT) Transistor NPN 40V 200mA 300MHz 150mW Surface Mount SOT-523; TOLERANCE: -NA-; EE_SPEC: 40V 0.2A; DISTRIBUTOR #: MMBT3904T-FDITR-ND; DISTRIBUTOR: Digikey; VALUE: NPN
footprint SOT523 SMALL
pins: 1 B (power), 2 E (power), 3 C (power)

## Molex 0705430003 Alt
designator J?, comment Molex 0705430003
Molex 4 Pin Clip Connector; MANUFACTURER #: 0705430038; PART: 4 Pin Conn; PART DESCRIPTION: 4 Positions Header, Shrouded Connector 0.100" (2.54mm) Through Hole Tin; TOLERANCE: -NA-; VALUE: HDR4; MANUFACTURER: Molex; DISTRIBUTOR #: WM4826-ND; DISTRIBUTOR: Digikey; EE_SPEC: -NA-
footprint Molex 0705430003 (4 pin connector)
footprint 4POL254
footprint 4POL254 - 026604040
part A pins: 1 OUT2B
part B pins: 2 OUT2A
part C pins: 3 OUT1A
part D pins: 4 OUT1B

## Molex 0705430003 Alt_1
designator J?, comment Molex 0705430003  (value not drawn)
Molex 4 Pin Clip Connector; MANUFACTURER #: 0705430038; PART: 4 Pin Conn; PART DESCRIPTION: 4 Positions Header, Shrouded Connector 0.100" (2.54mm) Through Hole Tin; TOLERANCE: -NA-; VALUE: HDR4; MANUFACTURER: Molex; DISTRIBUTOR #: WM4826-ND; DISTRIBUTOR: Digikey; EE_SPEC: -NA-
footprint Molex 0705430003 (4 pin connector)
part A pins: 1 OUT2B
part B pins: 2 OUT2A
part C pins: 3 OUT1A
part D pins: 4 OUT1B

## Molex 0705430003 Alt_1_1
designator J?, comment Molex 0705430003  (value not drawn)
Molex 4 Pin Clip Connector; MANUFACTURER #: 0705430038; PART: 4 Pin Conn; PART DESCRIPTION: 4 Positions Header, Shrouded Connector 0.100" (2.54mm) Through Hole Tin; TOLERANCE: -NA-; VALUE: HDR4; MANUFACTURER: Molex; DISTRIBUTOR #: WM4826-ND; DISTRIBUTOR: Digikey; EE_SPEC: -NA-
footprint 4POL254
pins: 1, 2, 3, 4

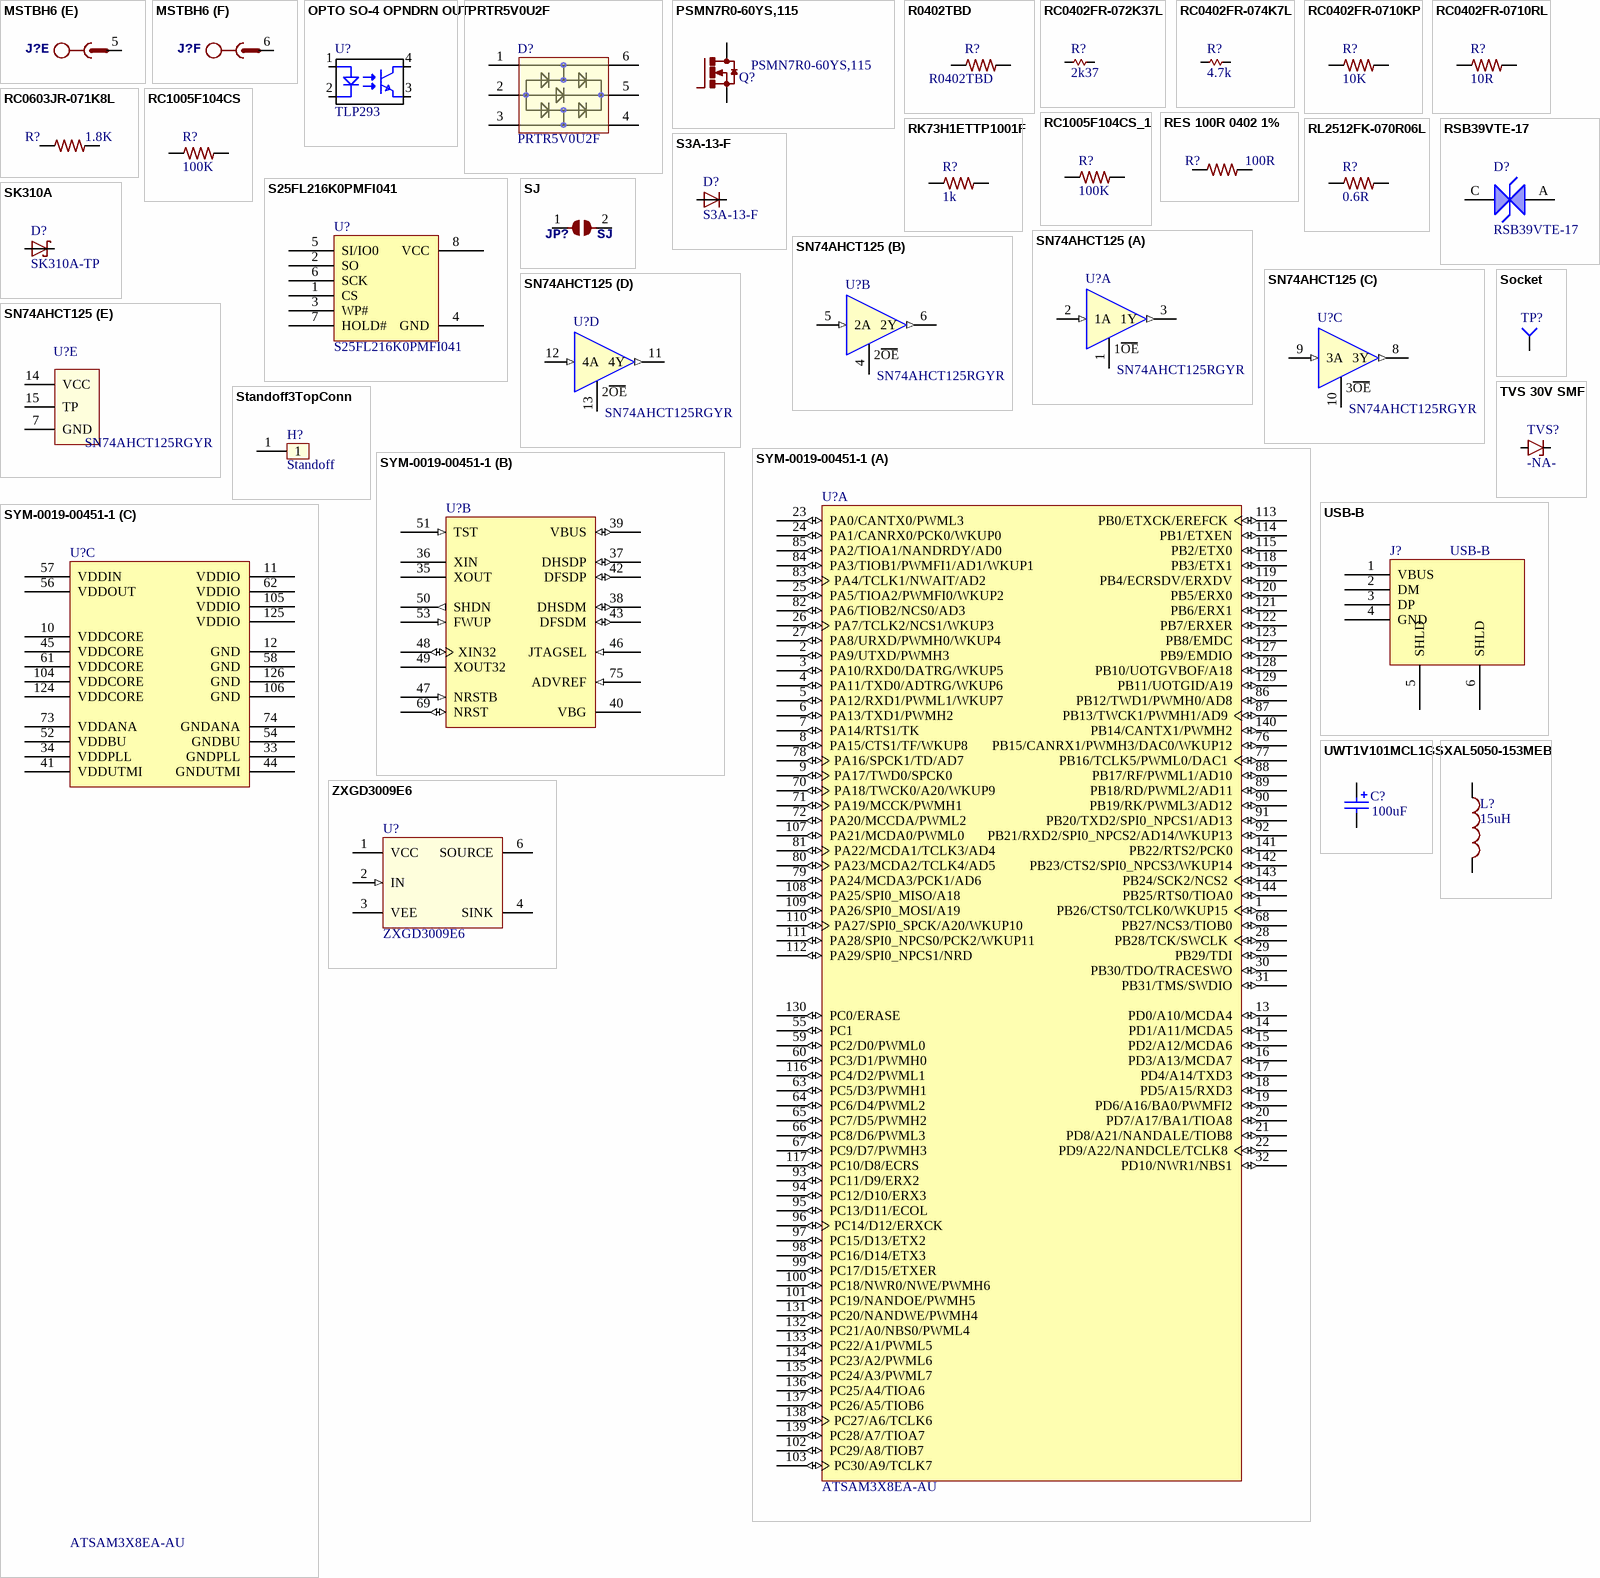
[diagram p2: symbols MSTBH6 to ZXGD3009E6]

## MSTBH6
designator J?  (value not drawn)
PHOENIX; MANUFACTURER: Molex; MANUFACTURER #: 39532-1006; PART: 6 Pin Conn RA; PART DESCRIPTION: 6 Position Terminal Block Header, Male Pins, Shrouded (4 Side) 0.200" (5.08mm) 90°, Right Angle Through Hole; TOLERANCE: -NA-; VALUE: HDR6; DISTRIBUTOR #: WM7849-ND; DISTRIBUTOR: Digikey; EE_SPEC: -NA-
footprint MSTBH6 (Pluggable terminal block-5.08mm pitch - Horizontal)
part A pins: 1
part B pins: 2 1
part C pins: 3 1
part D pins: 4 1
part E pins: 5
part F pins: 6

## OPTO SO-4 OPNDRN OUT
designator U?, comment TLP293
Optoisolator Transistor Output 3750Vrms 1 Channel 4-SO; MANUFACTURER #: TLP293(GB-TPL,E; MANUFACTURER: TOSHIBA; PART: Opto-Isolator 3.75kV; TOLERANCE: -NA-; VALUE: -NA-; EE_SPEC: 3.75kV Isolation; DISTRIBUTOR #: TLP293(GB-TPLETR-ND; DISTRIBUTOR: Digikey; PART DESCRIPTION: Optoisolator Transistor Output 3750Vrms 1 Channel 4-SO
footprint SO-4
pins: 1 A (power), 2 K (power), 3 E (power), 4 C (power)

## PRTR5V0U2F
designator D?
Rail-to-rail ESD protection devices; MANUFACTURER #: PRTR5V0U2F,115; MANUFACTURER: NXP; PART: TVS Array, 2 Lines, Low Capacitance; PART DESCRIPTION: TVS DIODE 5.5VWM SOT886; TOLERANCE: -NA-; VALUE: 5.5V; EE_SPEC: 5.5Vso 1pF; DISTRIBUTOR #: 568-4677-2-ND; DISTRIBUTOR: Digikey
footprint SOT886
pins: 1 (power), 2 (power), 3 (power), 4 (power), 5 (power), 6 (power)

## PSMN7R0-60YS,115
designator Q?
Mosfet N-channel 60V 356A 117W 9.3mOhms; MANUFACTURER: NXP; PART: MOSFET N-Chan 60V 89A; PART DESCRIPTION: N-Channel 60V 89A (Tc) 117W (Tc) Surface Mount LFPAK, Power-SO8; TOLERANCE: -NA-; VALUE: N-FET; EE_SPEC: 60V 89A 6.4mOhm; MANUFACTURER #: PSMN7R0-60YS,115; DISTRIBUTOR #: 568-5596-2-ND; DISTRIBUTOR: Digikey
footprint SOT669
pins: 1 S, 2 S, 3 S, 4 G, MB D

## R0402TBD
designator R?
Resistor; MANUFACTURER #: DNI-R0402TBD; VALUE: R0402TBD; DNI: DNI
footprint R0402
signal-integrity model Model Name (Model Description)
simulation model Model Name (Model Description)
pins: 1, 2

## RC0402FR-072K37L
designator R?, comment 2k37
RES SMD 2.37K OHM 1% 1/16W 0402; MANUFACTURER: Yageo; MANUFACTURER #: RC0402FR-072K37L; PART: 2.37k 1% 0402; PART DESCRIPTION: 2.37k Ohm ±1% 0.063W, 1/16W Chip Resistor 0402 (1005 Metric) Moisture Resistant Thick Film; VALUE: 2k37; DISTRIBUTOR #: 311-2.37KLRTR-ND; DISTRIBUTOR: Digikey; TOLERANCE: 1%; EE_SPEC: 1/16W
footprint R0402
pins: 1, 2

## RC0402FR-074K7L
designator R?, comment 4.7k
RES SMD 4.7K OHM 1% 1/16W 0402; MANUFACTURER: YAGEO; MANUFACTURER #: RC0402FR-074K7L; PART: 4.7k 1% 0402; PART DESCRIPTION: 4.7k Ohm ±1% 0.063W, 1/16W Chip Resistor 0402 (1005 Metric) Moisture Resistant Thick Film; VALUE: 4.7k; DISTRIBUTOR #: 311-4.7KLRTR-ND; DISTRIBUTOR: Digikey; TOLERANCE: 1%; EE_SPEC: 1/16W
footprint R0402
pins: 1, 2

## RC0402FR-0710KP
designator R?, comment 10K
RES SMD 10K OHM 1% 1/16W 0402; MANUFACTURER: Yageo; MANUFACTURER #: RC0402FR-0710KP; PART: 10k 1% 0402; PART DESCRIPTION: 10k Ohm ±1% 0.063W, 1/16W Chip Resistor 0402 (1005 Metric) Moisture Resistant Thick Film; VALUE: 10K; DISTRIBUTOR #: YAG1249TR-ND; DISTRIBUTOR: Digikey; TOLERANCE: 1%; EE_SPEC: 1/16W
footprint R0402
signal-integrity model Model Name (Model Description)
simulation model Model Name (Model Description)
pins: 1, 2

## RC0402FR-0710RL
designator R?, comment 10R
RES SMD 10 OHM 1% 1/16W 0402; MANUFACTURER: Yageo; MANUFACTURER #: RC0402FR-0710RL; PART: 10R 1% 0402; PART DESCRIPTION: 10 Ohm ±1% 0.063W, 1/16W Chip Resistor 0402 (1005 Metric) Moisture Resistant Thick Film; VALUE: 10R; DISTRIBUTOR #: 311-10.0LRTR-ND; DISTRIBUTOR: Digikey; TOLERANCE: 1%; EE_SPEC: 1/16W
footprint R0402
signal-integrity model Model Name (Model Description)
simulation model Model Name (Model Description)
pins: 1, 2

## RC0603JR-071K8L
designator R?, comment 1.8K
RES 0603 1.8K 100mW 5%; MANUFACTURER: Yageo; MANUFACTURER #: RC0603JR-071K8L; PART: 1.8k 5% 0603; PART DESCRIPTION: 1.8k Ohm ±5% 0.1W, 1/10W Chip Resistor 0603 (1608 Metric) Moisture Resistant Thick Film; EE_SPEC: 1/10W; VALUE: 1.8K; DISTRIBUTOR #: 311-1.8KGRTR-ND; DISTRIBUTOR: Digikey; TOLERANCE: 5%
footprint R0603
signal-integrity model Model Name (Model Description)
simulation model Model Name (Model Description)
pins: 1, 2

## RC1005F104CS
designator R?, comment 100K
RES SMD 100K OHM 1% 1/16W 0402; MANUFACTURER: Samsung; MANUFACTURER #: RC1005F104CS; PART: 100k 1% 0402; PART DESCRIPTION: 100k Ohm ±1% 0.063W, 1/16W Chip Resistor 0402 (1005 Metric) Moisture Resistant Thick Film; VALUE: 100K; DISTRIBUTOR #: 1276-3432-1-ND; DISTRIBUTOR: Digikey; TOLERANCE: 1%; EE_SPEC: 1/16W
footprint R0402
signal-integrity model Model Name (Model Description)
simulation model Model Name (Model Description)
pins: 1, 2

## RC1005F104CS_1
designator R?, comment 100K
RES SMD 100K OHM 1% 1/16W 0402; MANUFACTURER: Samsung; MANUFACTURER #: RC1005F104CS; PART: 100k 1% 0402; PART DESCRIPTION: 100k Ohm ±1% 0.063W, 1/16W Chip Resistor 0402 (1005 Metric) Moisture Resistant Thick Film; VALUE: 100K; DISTRIBUTOR #: 1276-3432-1-ND; DISTRIBUTOR: Digikey; TOLERANCE: 1%; EE_SPEC: 1/16W
footprint R0402
signal-integrity model Model Name (Model Description)
simulation model Model Name (Model Description)
pins: 1, 2

## RES 100R 0402 1%
designator R?, comment 100R
RES SMD 100 OHM 1% 1/16W 0402; MANUFACTURER: Yageo; MANUFACTURER #: RC0402FR-07100RL; PART: 100R 1% 0402; PART DESCRIPTION: 100 Ohm ±1% 0.063W, 1/16W Chip Resistor 0402 (1005 Metric) Moisture Resistant Thick Film; VALUE: 100R; DISTRIBUTOR #: 311-100LRTR-ND; DISTRIBUTOR: Digikey; TOLERANCE: 1%; EE_SPEC: 1/16W
footprint R0402
pins: 1, 2

## RK73H1ETTP1001F
designator R?, comment 1k
RES 0402 1k 63mW 1%; MANUFACTURER: Yageo; MANUFACTURER #: RC0402FR-071KL; PART: 1k 1% 0402; PART DESCRIPTION: 1k Ohm ±1% 0.063W, 1/16W Chip Resistor 0402 (1005 Metric) Moisture Resistant Thick Film; EE_SPEC: 1/16W; VALUE: 1k; DISTRIBUTOR #: 311-1.00KLRTR-ND; DISTRIBUTOR: Digikey; TOLERANCE: 1%
footprint R0402
signal-integrity model Model Name (Model Description)
simulation model Model Name (Model Description)
pins: 1, 2

## RL2512FK-070R06L
designator R?, comment 0.6R
RES 0.06 OHM 1W 1% 2512 SMD; MANUFACTURER: Yageo; MANUFACTURER #: RL2512FK-070R06L; PART: 0.6R 1% 2512; PART DESCRIPTION: 0.06 Ohm ±1% 1W Chip Resistor 2512 (6432 Metric) Automotive AEC-Q200, Current Sense, Moisture Resistant Thick Film; VALUE: 0.6R; DISTRIBUTOR #: 311-0.06TTR-ND; DISTRIBUTOR: Digikey; TOLERANCE: 1%; EE_SPEC: 1W
signal-integrity model Model Name (Model Description)
simulation model Model Name (Model Description)
footprint 2512R-0.55 (2512 Resistor 6.35mm x 3.2mm x 0.55mm)
pins: 1, 2

## RSB39VTE-17
designator D?
DIODE TVS; MANUFACTURER: Rohm; PART: TVS DIODE 30VWM SOD323; TOLERANCE: -NA-; VALUE: 30V; EE_SPEC: 30Vso 30pF; MANUFACTURER #: RSB39VTE-17; DISTRIBUTOR #: RSB39VTE-17TR-ND; DISTRIBUTOR: Digikey; PART DESCRIPTION: TVS DIODE 30VWM SOD323
footprint SOD323-R
pins: A (power), C (power)

## S3A-13-F
designator D?
DIODE DO-214AB; MANUFACTURER: Diodes Incorporated; PART: Diode 50V 3A; PART DESCRIPTION: Diode Standard 50V 3A Surface Mount SMC; TOLERANCE: -NA-; EE_SPEC: 50V 3A; VALUE: S3A-13-F; MANUFACTURER #: S3A-13-F; DISTRIBUTOR #: S3A-FDITR-ND; DISTRIBUTOR: Digikey
footprint DO-214AB
pins: A, C

## S25FL216K0PMFI041
designator U?
MANUFACTURER: Spansion; PART: Memory NOR Flash 16Mb; PART DESCRIPTION: Flash Memory 16Mb 3V 65MHz Serial NOR Flash; TOLERANCE: -NA-; VALUE: 16Mb; EE_SPEC: 3.3V; MANUFACTURER #: S25FL216K0PMFI041; DISTRIBUTOR #: 797-25FL216K0PMFI041; DISTRIBUTOR: Mouser
footprint S25FL216K0PMFI041 (SOIC, 8-Leads, Body 4.90x3.90mm, Pitch 1.27mm, IPC Medium Density)
pins: 1 CS, 2 SO, 3 WP#, 4 GND, 5 SI/IO0, 6 SCK, 7 HOLD#, 8 VCC

## SJ
designator JP?  (no BOM)
SMD solder jumper; MANUFACTURER #: NOTAPART-Solder Bridge
footprint SJ
pins: 1, 2

## SK310A
designator D?, comment SK310A-TP
DIODE Schottky 3A SMA; MANUFACTURER: MCC; MANUFACTURER #: SK310A; PART: Schottky Diode 100V 3A; PART DESCRIPTION: Diode Schottky 100V 3A Surface Mount DO-214AC (HSMA); TOLERANCE: -NA-; VALUE: -NA-; EE_SPEC: 100V 3A; DISTRIBUTOR #: SK310A-TPTR-ND; DISTRIBUTOR: Digikey
footprint SMA-SM
pins: A, C

## SN74AHCT125
designator U?, comment SN74AHCT125RGYR
Quadruple Bus Buffer Gates With 3-State Outputs 14-VQFN -40 to 125; MANUFACTURER: Texas Instruments; PART: IC BUS BUFFER TRI-ST QD 14VQFN; PART DESCRIPTION: Buffer, Non-Inverting 4 Element 1 Bit per Element Push-Pull Output 14-VQFN (3.5x3.5); TOLERANCE: -NA-; VALUE: Tri-State Buffer; EE_SPEC: 5V 8mA; MANUFACTURER #: SN74AHCT125RGYR; DISTRIBUTOR #: 296-13910-2-ND; DISTRIBUTOR: Digikey
footprint QFN50P350X350X100_RGY_S-PVQFN-N14 (QFN, 14-Leads, Body 3.50x3.50mm, Pitch 1.50mm/0.50mm, Thermal Pad 2.05x2.05mm, IPC High Density)
part A pins: 1 1OE (power), 2 1A (in), 3 1Y (out)
part B pins: 4 2OE (power), 5 2A (in), 6 2Y (out)
part C pins: 8 3Y (out), 9 3A (in), 10 3OE (power)
part D pins: 11 4Y (out), 12 4A (in), 13 4OE (power)
part E pins: 7 GND (power), 14 VCC (power), 15 TP (power)

## Socket
designator TP?, comment TP4  (value not drawn)  (no BOM)
Socket; MANUFACTURER #: NOTAPART-Testpoint
signal-integrity model Connector
footprint TP-2
pins: 1

## Standoff3TopConn
designator H?, comment Standoff  (no BOM)
Mechanical - Top connect; MANUFACTURER #: NOTAPART-Hole
footprint Standoff3mmTopConn
pins: 1 (power)

## SYM-0019-00451-1
designator U?, comment ATSAM3X8EA-AU
Atmel; PART: IC MCU 32BIT 512KB FLASH 144LQFP; PART DESCRIPTION: ARM® Cortex®-M3 SAM3X Microcontroller IC 32-Bit 84MHz 512KB (512K x 8) FLASH 144-LQFP (20x20); TOLERANCE: -NA-; VALUE: -NA-; EE_SPEC: 3.3V; MANUFACTURER #: ATSAM3X8EA-AU; MANUFACTURER: Atmel; DISTRIBUTOR #: ATSAM3X8EA-AU-ND; DISTRIBUTOR: Digikey
footprint LQFP144_N (Thin QFP, 144-Leads, Body 20x20mm, Pitch 0.5mm, IPC Medium Density)
part A pins: 1 PB26/CTS0/TCLK0/WKUP15 (io), 2 PA9/UTXD/PWMH3 (io), 3 PA10/RXD0/DATRG/WKUP5 (io), 4 PA11/TXD0/ADTRG/WKUP6 (io), 5 PA12/RXD1/PWML1/WKUP7 (io), 6 PA13/TXD1/PWMH2 (io), 7 PA14/RTS1/TK (io), 8 PA15/CTS1/TF/WKUP8 (io), 9 PA17/TWD0/SPCK0 (io), 13 PD0/A10/MCDA4 (io), 14 PD1/A11/MCDA5 (io), 15 PD2/A12/MCDA6 (io), 16 PD3/A13/MCDA7 (io), 17 PD4/A14/TXD3 (io), 18 PD5/A15/RXD3 (io), 19 PD6/A16/BA0/PWMFI2 (io), 20 PD7/A17/BA1/TIOA8 (io), 21 PD8/A21/NANDALE/TIOB8 (io), 22 PD9/A22/NANDCLE/TCLK8 (io), 23 PA0/CANTX0/PWML3 (io), 24 PA1/CANRX0/PCK0/WKUP0 (io), 25 PA5/TIOA2/PWMFI0/WKUP2 (io), 26 PA7/TCLK2/NCS1/WKUP3 (io), 27 PA8/URXD/PWMH0/WKUP4 (io), 28 PB28/TCK/SWCLK (io), 29 PB29/TDI (io), 30 PB30/TDO/TRACESWO (io), 31 PB31/TMS/SWDIO (io), 32 PD10/NWR1/NBS1 (io), 55 PC1 (io), 59 PC2/D0/PWML0 (io), 60 PC3/D1/PWMH0 (io), 63 PC5/D3/PWMH1 (io), 64 PC6/D4/PWML2 (io), 65 PC7/D5/PWMH2 (io), 66 PC8/D6/PWML3 (io), 67 PC9/D7/PWMH3 (io), 68 PB27/NCS3/TIOB0 (io), 70 PA18/TWCK0/A20/WKUP9 (io), 71 PA19/MCCK/PWMH1 (io), 72 PA20/MCCDA/PWML2 (io), 76 PB15/CANRX1/PWMH3/DAC0/WKUP12 (io), 77 PB16/TCLK5/PWML0/DAC1 (io), 78 PA16/SPCK1/TD/AD7 (io), 79 PA24/MCDA3/PCK1/AD6 (io), 80 PA23/MCDA2/TCLK4/AD5 (io), 81 PA22/MCDA1/TCLK3/AD4 (io), 82 PA6/TIOB2/NCS0/AD3 (io), 83 PA4/TCLK1/NWAIT/AD2 (io), 84 PA3/TIOB1/PWMFI1/AD1/WKUP1 (io), 85 PA2/TIOA1/NANDRDY/AD0 (io), 86 PB12/TWD1/PWMH0/AD8 (io), 87 PB13/TWCK1/PWMH1/AD9 (io), 88 PB17/RF/PWML1/AD10 (io), 89 PB18/RD/PWML2/AD11 (io), 90 PB19/RK/PWML3/AD12 (io), 91 PB20/TXD2/SPI0_NPCS1/AD13 (io), 92 PB21/RXD2/SPI0_NPCS2/AD14/WKUP13 (io), 93 PC11/D9/ERX2 (io), 94 PC12/D10/ERX3 (io), 95 PC13/D11/ECOL (io), 96 PC14/D12/ERXCK (io), 97 PC15/D13/ETX2 (io), 98 PC16/D14/ETX3 (io), 99 PC17/D15/ETXER (io), 100 PC18/NWR0/NWE/PWMH6 (io), 101 PC19/NANDOE/PWMH5 (io), 102 PC29/A8/TIOB7 (io), 103 PC30/A9/TCLK7 (io), 107 PA21/MCDA0/PWML0 (io), 108 PA25/SPI0_MISO/A18 (io), 109 PA26/SPI0_MOSI/A19 (io), 110 PA27/SPI0_SPCK/A20/WKUP10 (io), 111 PA28/SPI0_NPCS0/PCK2/WKUP11 (io), 112 PA29/SPI0_NPCS1/NRD (io), 113 PB0/ETXCK/EREFCK (io), 114 PB1/ETXEN (io), 115 PB2/ETX0 (io), 116 PC4/D2/PWML1 (io), 117 PC10/D8/ECRS (io), 118 PB3/ETX1 (io), 119 PB4/ECRSDV/ERXDV (io), 120 PB5/ERX0 (io), 121 PB6/ERX1 (io), 122 PB7/ERXER (io), 123 PB8/EMDC (io), 127 PB9/EMDIO (io), 128 PB10/UOTGVBOF/A18 (io), 129 PB11/UOTGID/A19 (io), 130 PC0/ERASE (io), 131 PC20/NANDWE/PWMH4 (io), 132 PC21/A0/NBS0/PWML4 (io), 133 PC22/A1/PWML5 (io), 134 PC23/A2/PWML6 (io), 135 PC24/A3/PWML7 (io), 136 PC25/A4/TIOA6 (io), 137 PC26/A5/TIOB6 (io), 138 PC27/A6/TCLK6 (io), 139 PC28/A7/TIOA7 (io), 140 PB14/CANTX1/PWMH2 (io), 141 PB22/RTS2/PCK0 (io), 142 PB23/CTS2/SPI0_NPCS3/WKUP14 (io), 143 PB24/SCK2/NCS2 (io), 144 PB25/RTS0/TIOA0 (io)
part B pins: 35 XOUT "Main Oscillator Output", 36 XIN "Main Oscillator Input", 37 DHSDP (io) "USB High Speed Data +", 38 DHSDM (io) "USB High Speed Data -", 39 VBUS (io) "USB Bus Power Measurement Mini Host/Device", 40 VBG "Bias Voltage Reference", 42 DFSDP (io) "USB Full Speed Data +", 43 DFSDM (io) "USB Full Speed Data -", 46 JTAGSEL (in) "JTAG Selection", 47 NRSTB (in) "Asynchronous Microcontroller Reset", 48 XIN32 (io) "Slow Clock Oscillator Input", 49 XOUT32 "Slow Clock Oscillator Output", 50 SHDN (out) "Shut-Down Control", 51 TST (in) "Test Mode Select", 53 FWUP (in) "Force Wake-up Input", 69 NRST (io) "Microcontroller Reset", 75 ADVREF (in) "ADC and DAC Reference"
part C pins: 10 VDDCORE (power) "Core Chip Power Supply", 11 VDDIO (power) "Peripherals I/O Lines Power Supply", 12 GND (power) "Ground", 33 GNDPLL (power) "PLL A, UPLL and Oscillator Ground", 34 VDDPLL (power) "PLL A, UPLL and Oscillator Power Supply", 41 VDDUTMI (power) "USB UTMI+ Interface Power Supply", 44 GNDUTMI (power) "USB UTMI+ Interface Ground", 45 VDDCORE (power) "Core Chip Power Supply", 52 VDDBU (power) "Backup I/O Lines Power Supply", 54 GNDBU (power) "Backup Ground", 56 VDDOUT (power) "Voltage Regulator Output", 57 VDDIN (power) "Voltage Regulator, ADC and DAC Power", 58 GND (power) "Ground", 61 VDDCORE (power) "Core Chip Power Supply", 62 VDDIO (power) "Peripherals I/O Lines Power Supply", 73 VDDANA (power) "ADC and DAC Analog Power Supply", 74 GNDANA (power) "ADC and DAC Analog Ground", 104 VDDCORE (power) "Core Chip Power Supply", 105 VDDIO (power) "Peripherals I/O Lines Power Supply", 106 GND (power) "Ground", 124 VDDCORE (power) "Core Chip Power Supply", 125 VDDIO (power) "Peripherals I/O Lines Power Supply", 126 GND (power) "Ground"

## TVS 30V SMF
designator TVS?  value -NA-  (hidden comment: TVS 30V SMF)
TVS DIODE 30VWM 48.4VC SMF; MANUFACTURER: Vishay; MANUFACTURER #: SMF30A-E3-08; PART: TVS Diode 48.4VC; EE_SPEC: 30Vrs 48.4Vc; DISTRIBUTOR #: SMF30A-E3-08GITR-ND; DISTRIBUTOR: Digikey; PART DESCRIPTION: TVS DIODE 30VWM 48.4VC SMF; TOLERANCE: -NA-
footprint SMF (Molded Diode, 2-Leads, Body 2.80x1.80mm, IPC High Density)
pins: A, K

## USB-B
designator J?
MANUFACTURER #: 61729-0010BLF; MANUFACTURER: Amphenol FCI; PART: CONN RCPT USB TYPE B R/A PCB; PART DESCRIPTION: USB - B USB 2.0 Receptacle Connector 4 Position Through Hole, Right Angle; TOLERANCE: -NA-; VALUE: USB B; DISTRIBUTOR #: 609-1039-ND; DISTRIBUTOR: Digikey; EE_SPEC: -NA-
footprint PN61729
pins: 1 VBUS, 2 DM, 3 DP, 4 GND, 5 SHLD, 6 SHLD

## UWT1V101MCL1GS
designator C?  value 100uF  (hidden comment: UWT1V101MCL1GS)
CAP ALUM 100UF 35V 20% SMD; MANUFACTURER: Nichicon; PART: 100uF 35V SMD Al-El; PART DESCRIPTION: 100µF 35V Aluminum Capacitors Radial, Can - SMD 1000 Hrs @ 105°C; MANUFACTURER #: UWT1V101MCL1GS; DISTRIBUTOR #: 493-2203-2-ND; DISTRIBUTOR: Digikey; TOLERANCE: 20%; EE_SPEC: 35V
simulation model CAP (Capacitor)
signal-integrity model Cap Pol
footprint CAP-ELEC-063063077 (6.3x6.3x7.7mm)
pins: 1, 2
1 alternate drawing of the same symbol

## XAL5050-153MEB
designator L?, comment 15uH
IND 15uH 3.9A 20%; MANUFACTURER: Coilcraft; MANUFACTURER #: XAL5050-153MEB; PART: 0.1uF 16V X7R 0402; EE_SPEC: Isat=3.7 Irms=3.4; VALUE: 15uH; DISTRIBUTOR #: XAL5050-153MEB; DISTRIBUTOR: Coilcraft; TOLERANCE: 20%
footprint XAL50xx-153 (Precision Wire Wound Inductor, 2-Leads, Body 5.28x5.48mm, IPC High Density)
pins: 1, 2

## ZXGD3009E6
designator U?
MOSFET DRVR 3A 1-OUT High Speed Non-Inv6-Pin SOT-26 T/R; MANUFACTURER #: ZXGD3009E6TA; MANUFACTURER: Diodes Incorporated; PART: IC GATE DRVR IGBT/MOSFET SOT23-6; PART DESCRIPTION: Low-Side Gate Driver IC Non-Inverting SOT-26; TOLERANCE: -NA-; EE_SPEC: 40V 2A; DISTRIBUTOR #: ZXGD3009E6TADITR-ND; DISTRIBUTOR: Digikey; VALUE: ZXGD3009E6
footprint SOT26P285X140-6L (SOT26, 6-Leads, Body 3.00x2.85mm, Pitch 0.95mm, IPC High Density)
pins: 1 VCC (power), 2 IN (in), 3 VEE (power), 4 SINK (power), 6 SOURCE (power)